# EAGLE library part LTC4061 (library X893)
http://cds.linear.com/docs/en/datasheet/4061fd.pdf
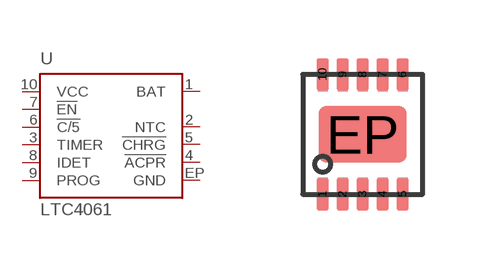
[diagram p197: symbol with the pads of DFN10-0.5; footprint DFN10-0.5]

Designator prefix U

## LTC4061  [DFN10-0.5]
1  BAT
2  NTC
3  TIMER
4  !ACPR
5  !CHRG
6  !C/5
7  !EN
8  IDET
9  PROG
10  VCC
EP  GND

## Footprint DFN10-0.5 (pad centres in mm)
smd 0.3 x 0.8: 1 -1,-1.5; 2 -0.5,-1.5; 3 0,-1.5; 4 0.5,-1.5; 5 1,-1.5; 6 1,1.5; 7 0.5,1.5; 8 0,1.5; 9 -0.5,1.5; 10 -1,1.5
smd 2.2 x 1.4: EP 0,0